# Altium footprint library SnapEDApcb.PcbLib: 1 footprints
Each footprint in its own frame and in the unit in brackets; x right, y up, seen from the top. Pads: shape width x height; smd on the part's side, far side on the other; paste and mask are expansions set on the pad; w line width, h text height; cw(c..) or ccw(c..) is an arc to the next point about the centre after c.
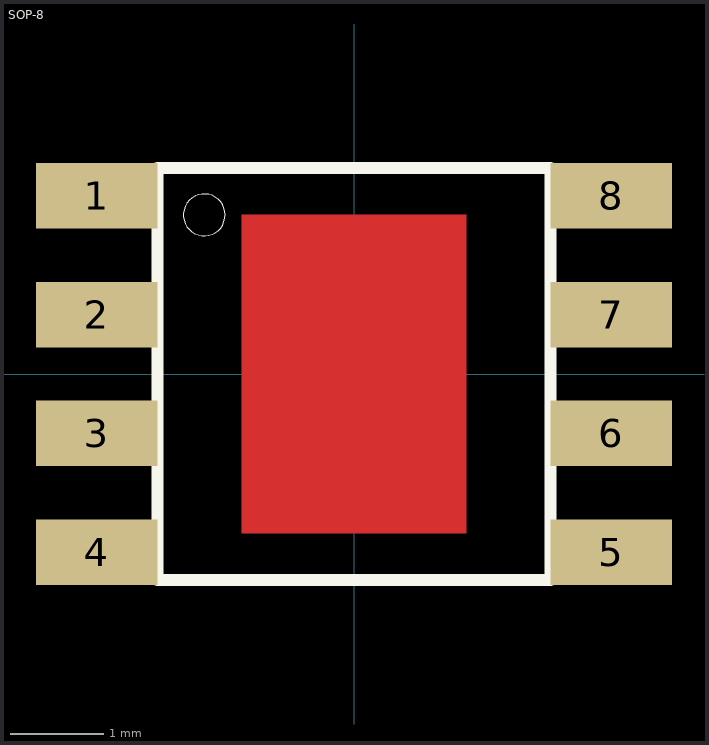
[diagram p0: the footprint, top view; thin cyan lines are the x and y axes]

## SOP-8 [mm]
pads (8):
  rect 1.3x0.7 smd: 1(-2.75,1.905) 2(-2.75,0.635) 3(-2.75,-0.635) 4(-2.75,-1.905) 5(2.75,-1.905) 6(2.75,-0.635) 7(2.75,0.635) 8(2.75,1.905)
Top Layer:
  region: 1.2,-1.7 -1.2,-1.7 -1.2,1.7 1.2,1.7
Top Overlay:
  circle w0: c-1.6,1.7 r0.224
  lines w0.127: -2.1,-2.2 2.1,-2.2 2.1,2.2 -2.1,2.2 -2.1,-2.2